# Altium schematic symbol library micrel-regulator.SchLib: 2 symbols
Pins are listed as number, name and electrical type; pins without a type are passive.

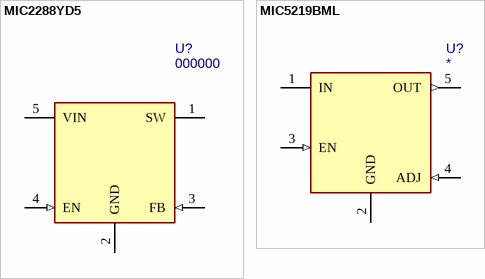
[diagram p0: symbols MIC2288YD5 to MIC5219BML]

## MIC2288YD5
designator U?, comment 000000
MF: ON Semiconductor; Value: MIC2288YD5; PN: 000000; Package: SOT-23-5; ExtraInfo: *
footprint SOT-23-5 (SOT23, 5-Leads, Body 3.0x3.0mm (max), Pitch 0.95mm, IPC High Density)
pins: 1 SW (oc), 2 GND (power), 3 FB (in), 4 EN (in), 5 VIN (power)

## MIC5219BML
designator U?
Value: MIC529BML; PN: *; Package: *; ExtraInfo: *
footprint SOT-23-5 (SOT23, 5-Leads, Body 3.0x3.0mm (max), Pitch 0.95mm, IPC High Density)
pins: 1 IN (power), 2 GND (power), 3 EN (in), 4 ADJ (in), 5 OUT (out)